# Altium footprint library SMA_Port-BAT_WIRELESS_BWSMA-KE-Z001.PcbLib: 1 footprints
Each footprint in its own frame and in the unit in brackets; x right, y up, seen from the top. Pads: shape width x height; smd on the part's side, far side on the other; paste and mask are expansions set on the pad; w line width, h text height; cw(c..) or ccw(c..) is an arc to the next point about the centre after c.
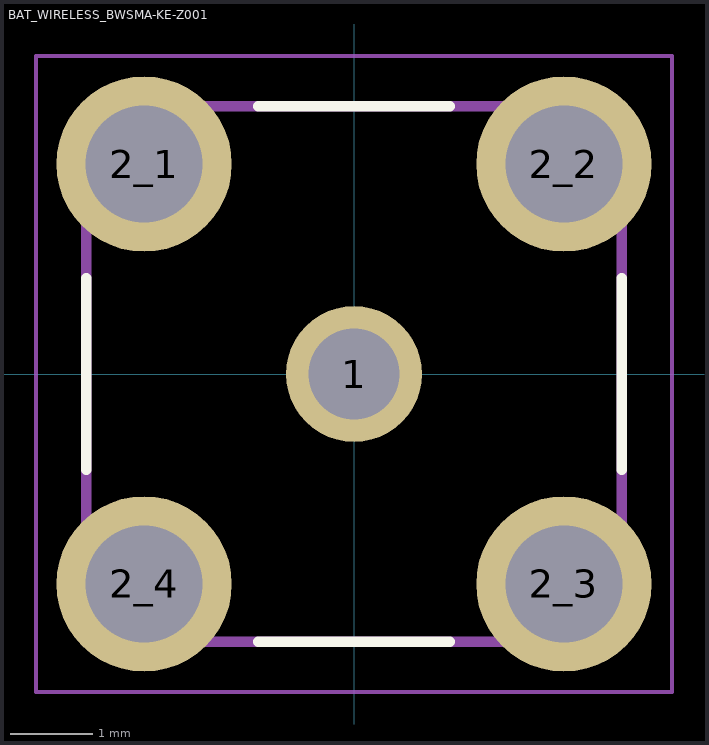
[diagram p0: the footprint, top view; thin cyan lines are the x and y axes]

## BAT_WIRELESS_BWSMA-KE-Z001 [mm]
height 9.5
pads (5):
  round 1.65 hole 1.1: 1(0,0)
  round 2.13 hole 1.42: 2_1(-2.55,2.55) 2_2(2.55,2.55) 2_3(2.55,-2.55) 2_4(-2.55,-2.55)
Top Overlay:
  lines w0.127: -3.25,-1.165 -3.25,1.165 ; -1.165,-3.25 1.165,-3.25 ; -1.165,3.25 1.165,3.25 ; 3.25,-1.165 3.25,1.165
Mechanical 13:
  lines w0.127: -3.25,-3.25 3.25,-3.25 3.25,3.25 -3.25,3.25 -3.25,-3.25
Mechanical 15:
  lines w0.05: -3.865,-3.865 3.865,-3.865 3.865,3.865 -3.865,3.865 -3.865,-3.865
3D body "85201239--3DModel-STEP-56544.STEP": height 9.75, standoff -4.2, extent -3.285,-11.73 3.175,3.23